# Altium footprint library БУС.PcbLib: 29 footprints (part 2 of 2)
Each footprint in its own frame and in the unit in brackets; x right, y up, seen from the top. Pads: shape width x height; smd on the part's side, far side on the other; paste and mask are expansions set on the pad; w line width, h text height; cw(c..) or ccw(c..) is an arc to the next point about the centre after c.
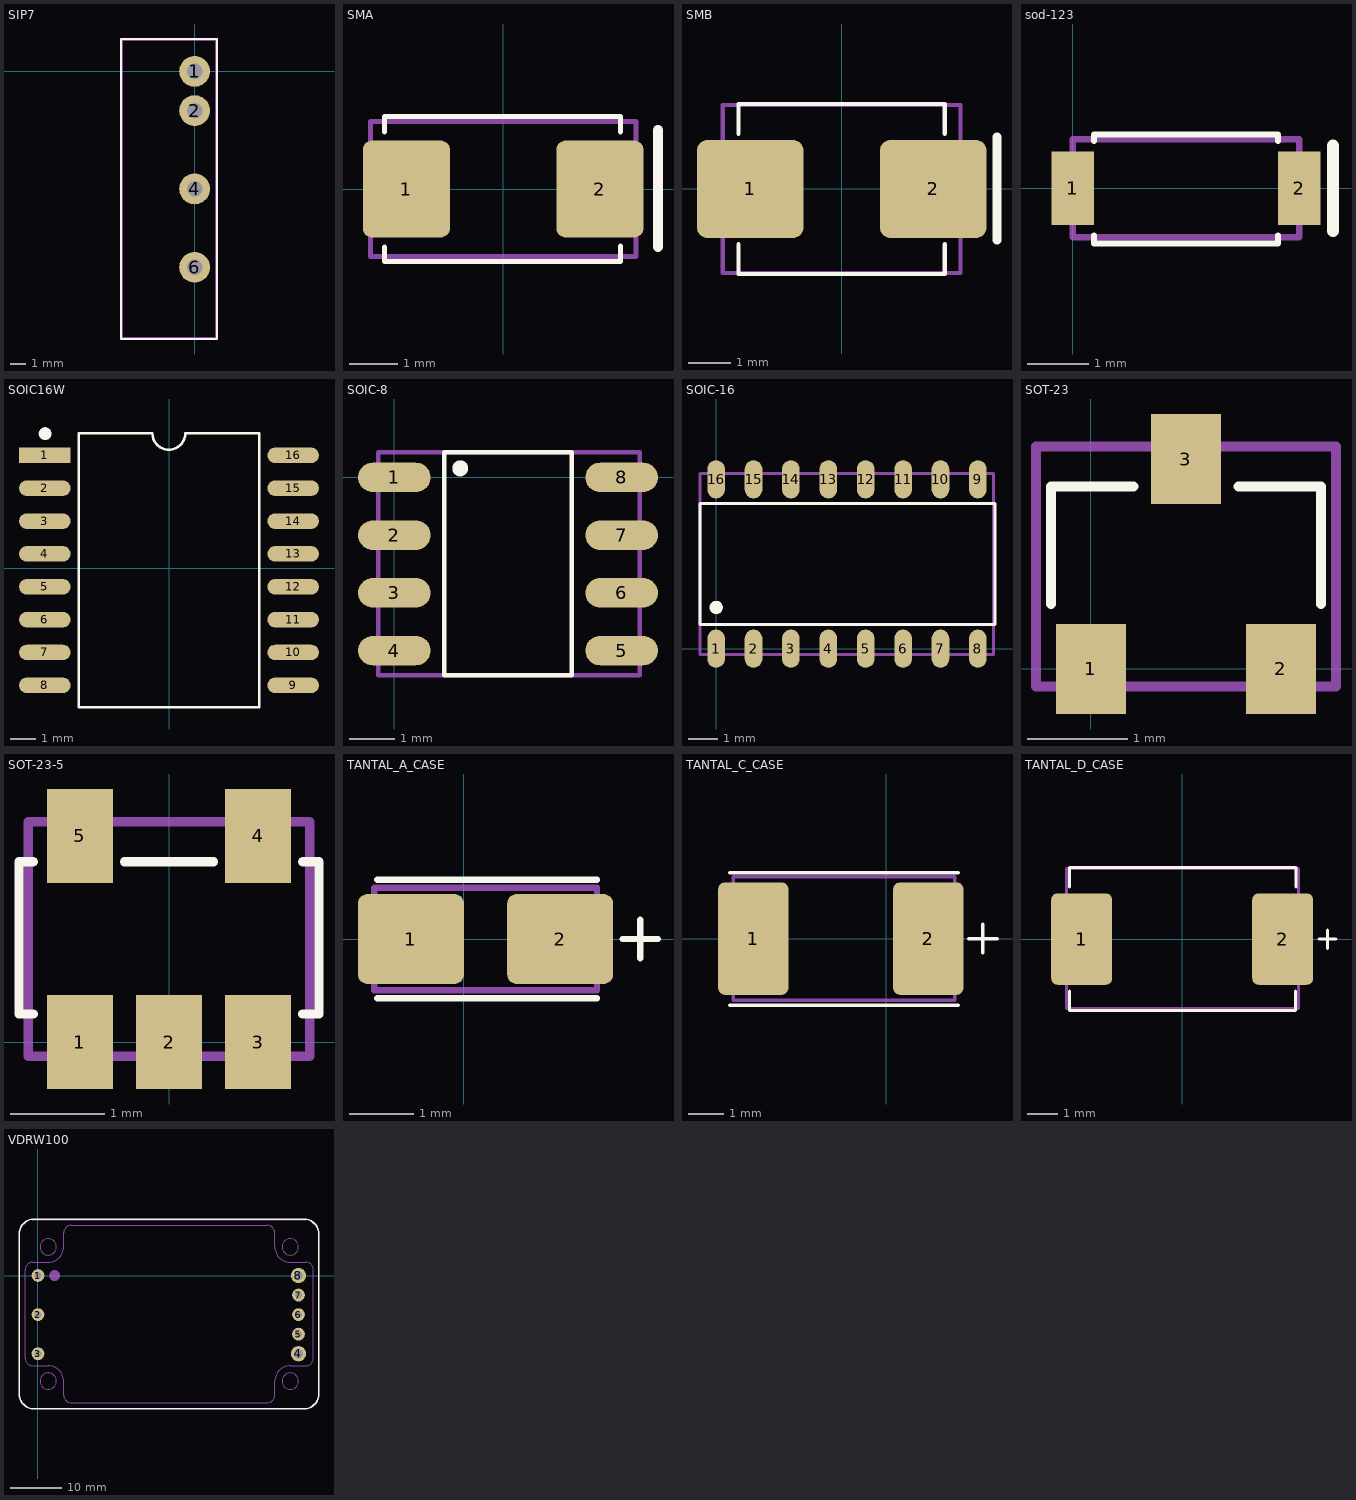
[diagram p1: the footprints below, top view; thin cyan lines are the x and y axes]

## SIP7 [mm]
pads (4):
  round 2 hole 1: 1(0,0) 2(0,-2.54) 4(0,-7.62) 6(0,-12.7)
Top Overlay:
  lines w0.1: -4.775,-17.35 1.45,-17.35 1.45,2.1 -4.775,2.1 -4.775,-17.35
Mechanical 13:
  lines w0.1: -4.7,-17.275 1.375,-17.275 1.375,2.025 -4.7,2.025 -4.7,-17.275
3D body "User Library-SIP-4(7)_A6.step": height 10.16, standoff -2.25, extent -4.7,-17.27 1.39,2.03

## SMA [mm]
pads (2):
  rrect20% 1.8x2 smd: 1(-2,0) 2(2,0)
Top Overlay:
  lines w0.1: -2.45,-1.2 -2.45,-1.5 2.425,-1.5 2.425,-1.175 ; -2.45,1.175 -2.45,1.5 2.425,1.5 2.425,1.175
  lines w0.2: 3.2,-1.2 3.2,1.225
Mechanical 13:
  lines w0.1: -2.743,-1.397 2.743,-1.397 2.743,1.397 -2.743,1.397 -2.743,-1.397
3D body "SMA Diode.step": height 2.29, standoff 0.01, extent -2.743,-1.397 2.743,1.397

## SMB [mm]
pads (2):
  rrect20% 2.5x2.3 smd: 1(-2.15,0) 2(2.15,0)
Top Overlay:
  lines w0.1: -2.425,-1.3 -2.425,-2 2.425,-2 2.425,-1.3 ; -2.425,1.3 -2.425,2 2.425,2 2.425,1.3
  lines w0.2: 3.65,-1.2 3.65,1.225
Mechanical 13:
  lines w0.1: -2.794,-1.975 -2.794,1.975 2.794,1.975 2.794,-1.975 -2.794,-1.975
3D body "User Library-DO-214AA(SMB).step": height 2.65, standoff 0, extent -2.794,-1.975 2.794,1.975

## sod-123 [mm]
pads (2):
  rect 0.7x1.2 smd: 1(0,0) 2(3.7,0)
Top Overlay:
  lines w0.1: 0.35,-0.775 0.35,-0.9 3.35,-0.9 3.35,-0.775 ; 0.35,0.775 0.35,0.875 3.35,0.875 3.35,0.775
  lines w0.2: 4.25,-0.7 4.25,0.7
Mechanical 13:
  lines w0.1: 0,-0.8 0,0.8 3.7,0.8 3.7,-0.8 0,-0.8
3D body "CircuitWorks-SOD123.step": height -0.42, standoff -1.69, extent 0,-0.8 3.7,0.8

## SOIC16W [mm]
pads (17):
  rect 2x0.6 smd: 1(-4.81,4.36)
  oval 2x0.6 smd: 2(-4.81,3.09) 3(-4.81,1.82) 4(-4.81,0.55) 5(-4.81,-0.72) 6(-4.81,-1.99) 7(-4.81,-3.26) 8(-4.81,-4.53) 9(4.79,-4.53) 10(4.79,-3.26) 11(4.79,-1.99) 12(4.79,-0.72) 13(4.79,0.55) 14(4.79,1.82) 15(4.79,3.09) 16(4.79,4.36)
  round 0.5 on Top Overlay mask+0.051: ""(-4.8,5.2)
Top Overlay:
  lines w0.1: -3.497,-5.385 -3.497,5.215 -0.65,5.215 ccw(c-0.015,5.215) 0.62,5.215 3.477,5.215 3.477,-5.385 -3.497,-5.385
3D body "SOIC16W.stp": height 2.65, standoff 0, extent -5.353,-5.35 5.353,5.15

## SOIC-8 [mm]
pads (8):
  oval 1.6x0.65 smd: 1(0,0) 2(0,-1.27) 3(0,-2.54) 4(0,-3.81) 5(5,-3.81) 6(5,-2.54) 7(5,-1.27) 8(5,0)
Top Overlay:
  circle w0.25: c1.45,0.2 r0.05
  lines w0.1: 1.1,-4.35 1.1,0.55 3.9,0.55 3.9,-4.35 1.1,-4.35
Mechanical 13:
  lines w0.1: -0.35,-4.35 -0.35,0.55 5.4,0.55 5.4,-4.35 -0.35,-4.35
3D body "CircuitWorks-SO-8.step": height 1.45, standoff 0, extent -0.364,-4.352 5.414,0.55

## SOIC-16 [mm]
pads (16):
  oval 0.6x1.3 smd paste+0 mask+0.1: 1(0,0) 2(1.27,0) 3(2.54,0) 4(3.81,0) 5(5.08,0) 6(6.35,0) 7(7.62,0) 8(8.89,0) 9(8.89,5.75) 10(7.62,5.75) 11(6.35,5.75) 12(5.08,5.75) 13(3.81,5.75) 14(2.54,5.75) 15(1.27,5.75) 16(0,5.75)
Top Overlay:
  circle w0.25: c0,1.4 r0.1
  lines w0.1: -0.55,0.825 -0.55,4.925 9.475,4.925 9.475,0.825 -0.55,0.825
Mechanical 13:
  lines w0.1: -0.55,-0.2 9.425,-0.2 9.425,5.95 -0.55,5.95 -0.55,-0.2
3D body "User Library-so16-1.step": height 1.78, standoff 0.01, extent -0.535,-0.193 9.435,5.944

## SOT-23 [mm]
pads (3):
  rect 0.7x0.9 smd: 1(0,0) 2(1.9,0) 3(0.95,2.1)
Top Overlay:
  lines w0.1: -0.4,0.65 -0.4,1.825 0.425,1.825 ; 1.475,1.825 2.3,1.825 2.3,0.65
Mechanical 13:
  lines w0.1: -0.55,-0.175 -0.55,2.225 2.45,2.225 2.45,-0.175 -0.55,-0.175
3D body "sot23 v2.step": height 1.1, standoff 0, extent -0.55,-0.175 2.45,2.225

## SOT-23-5 [mm]
pads (5):
  rect 0.7x1 smd mask+0.045: 1(-0.95,0) 2(0,0) 3(0.95,0) 4(0.95,2.2) 5(-0.95,2.2)
Top Overlay:
  lines w0.1: -1.45,0.3 -1.6,0.3 -1.6,1.925 -1.45,1.925 ; -0.475,1.925 0.475,1.925 ; 1.425,0.3 1.6,0.3 1.6,1.925 1.425,1.925
Mechanical 13:
  lines w0.1: -1.5,-0.15 -1.5,2.35 1.5,2.35 1.5,-0.15 -1.5,-0.15
3D body "CircuitWorks-SOT-23-5.step": height 1.1, standoff 0, extent -1.5,-0.15 1.5,2.35

## TANTAL_A_CASE [mm]
pads (2):
  rrect20% 1.65x1.4 smd: 1(-0.825,0) 2(1.5,0)
Top Overlay:
  lines w0.1: -1.35,-0.925 2.075,-0.925 ; -1.35,0.925 2.075,0.925 ; 2.475,0 3.025,0 ; 2.75,-0.3 2.75,0.3
Mechanical 13:
  lines w0.1: -1.4,-0.8 -1.4,0.8 2.075,0.8 2.075,-0.8 -1.4,-0.8
3D body "Tantal_A.step": height 1.65, standoff -0.01, extent -1.394,-0.8 2.069,0.8

## TANTAL_C_CASE [mm]
pads (2):
  rrect20% 2x3.2 smd: 1(-3.775,0) 2(1.2,0)
Top Overlay:
  lines w0.1: -4.45,-1.9 2.05,-1.9 ; -4.45,1.875 2.05,1.875 ; 2.35,0 3.15,0 ; 2.75,-0.4 2.75,0.4
Mechanical 13:
  lines w0.1: -4.35,-1.75 1.95,-1.75 1.95,1.75 -4.35,1.75 -4.35,-1.75
3D body "Tantal_C.step": height 2.81, standoff 0.01, extent -4.35,-1.75 1.95,1.75

## TANTAL_D_CASE [mm]
pads (2):
  rrect20% 2x3 smd: 1(-3.3,0) 2(3.3,0)
Top Overlay:
  lines w0.1: -3.7,-1.7 -3.7,-2.35 3.725,-2.35 3.725,-1.7 ; -3.694,1.706 -3.694,2.356 3.731,2.356 3.731,1.706 ; 4.5,0 5.05,0 ; 4.775,-0.3 4.775,0.3
Mechanical 13:
  lines w0.1: -3.8,-2.275 -3.8,2.325 3.825,2.325 3.825,-2.275 -3.8,-2.275
3D body "t495d107k016ate100.stp": height 3.11, standoff 0.01, extent -3.8,-2.275 3.8,2.325

## VDRW100 [mm]
height 12.7
pads (8):
  round 2.5 hole 1.3: 1(0,0) 2(0,-7.62) 3(0,-15.24) 5(50.8,-11.43) 6(50.8,-7.62) 7(50.8,-3.81)
  round 3 hole 1.8: 4(50.8,-15.24) 8(50.8,0)
Top Overlay:
  lines w0.254: -3.7,-23 ccw(c-0.7,-23) -0.7,-26 51.8,-26 ccw(c51.8,-23) 54.8,-23 54.8,8 ccw(c51.8,8) 51.8,11 -0.7,11 ccw(c-0.7,8) -3.7,8 -3.7,-23
Mechanical 1:
  circle w0.15: c50.8,-3.81 r0.5
  circle w0.15: c50.8,-7.62 r0.5
  circle w0.15: c50.8,-11.43 r0.5
  circle w0.1: c50.8,0 r0.75
  circle w0.1: c50.8,-15.24 r0.75
  circle w0.1: c2,5.6 r1.6
  circle w0.1: c49.2,5.6 r1.6
  circle w0.1: c49.2,-20.6 r1.6
  circle w0.1: c2,-20.6 r1.6
  circle w0.15: c0,-15.24 r0.5
  circle w0.15: c0,-7.62 r0.5
  circle w0.15: c0,0 r0.5
  circle w1.5: c3.25,0 r0.3
  lines w0.1: 46.2,8.3 ccw(c44.7,8.3) 44.7,9.8 6.5,9.8 ccw(c6.5,8.3) 5,8.3 5,5.6 cw(c2,5.6) 2,2.6 -1,2.6 ccw(c-1,1.1) -2.5,1.1 -2.5,-16.1 ccw(c-1,-16.1) -1,-17.6 2,-17.6 cw(c2,-20.6) 5,-20.6 5,-23.3 ; 46.2,8.325 46.2,5.6 ccw(c49.2,5.6) 49.2,2.6 52.2,2.6 cw(c52.2,1.1) 53.7,1.1 53.7,-16.1 cw(c52.2,-16.1) 52.2,-17.6 49.2,-17.6 ccw(c49.2,-20.6) 46.2,-20.6 46.2,-23.3 cw(c44.7,-23.3) 44.7,-24.8 6.5,-24.8 cw(c6.5,-23.3) 5,-23.3 ; 54.8,-23.402 54.8,8.402 ; 54.8,-23.4 cw(c52.3,-23.4) 52.3,-25.9 -1.1,-25.9 cw(c-1.1,-23.4) -3.6,-23.4 -3.6,8.4 cw(c-1.1,8.4) -1.1,10.9 52.3,10.9 cw(c52.3,8.4) 54.8,8.4 ; 5,-23.3 5,-23.3 ; 50.8,-20.6 50.8,-20.6
Mechanical 2:
  circle w0.15: c0,-7.62 r0.5
  circle w0.15: c50.8,-3.81 r0.5
  circle w0.15: c50.8,-7.62 r0.5
  circle w0.15: c50.8,-11.43 r0.5
  circle w0.1: c50.8,0 r0.75
  circle w0.1: c50.8,-15.24 r0.75
  circle w0.15: c0,-15.24 r0.5
  circle w0.15: c0,0 r0.5
3D body "Q-Brick_50.stp": height 12.8, standoff -3.9, extent -3.6,-25.925 54.8,10.875